# Altium schematic symbol library 电源芯片.SchLib: 37 symbols
Pins are listed as number, name and electrical type; pins without a type are passive.

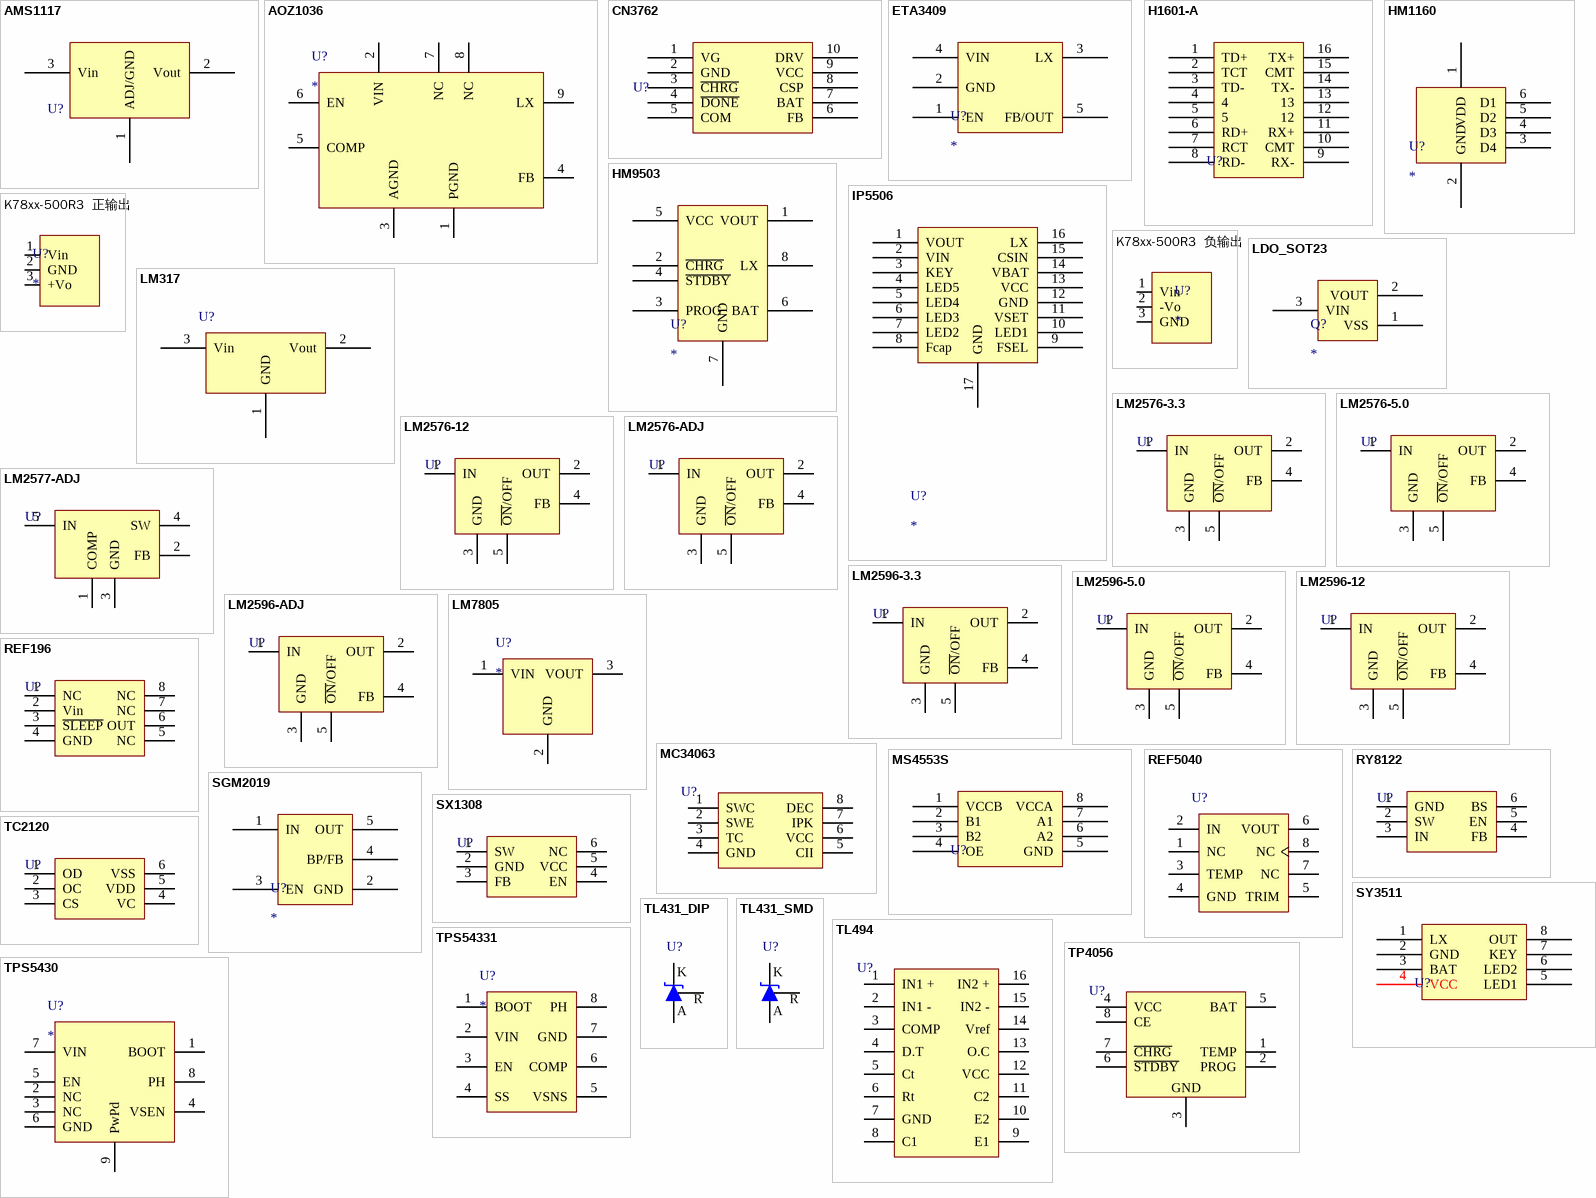
[diagram p0: symbols AMS1117 to TPS54331]

## AMS1117
designator U?
三端稳压芯片
footprint SOT223
footprint TO252 (252晶体管)
footprint SOT89(2-4)
pins: 1 ADJ/GND, 2 Vout, 3 Vin

## AOZ1036
designator U?
footprint SOP8-Pad
pins: 1 PGND, 2 VIN, 3 AGND, 4 FB, 5 COMP, 6 EN, 7 NC, 8 NC, 9 LX

## CN3762
designator U?  (value not drawn)
PWM降压模式两节锂电池充电管理芯片; Manufacturer: CONSONANCE(上海如韵); Symbol: CN3762; Add into BOM: yes; Device: CN3762; LCSC Part Name: CN3762; Supplier Part: C63168; Manufacturer Part: CN3762; Supplier Footprint: SSOP-10_150mil; Datasheet: https://atta.szlcsc.com/upload/public/pdf/source/20160107/1457707747412.pdf; Supplier: LCSC; Convert to PCB: yes; Battery Chemistry: -; Number of Cells: -; Charge Current - Max: -; Battery Pack Voltage: -; Voltage - Supply (Max): -; Interface: -
footprint SOP10
pins: 1 VG, 2 GND, 3 ~{CHRG}, 4 ~{DONE}, 5 COM, 6 FB, 7 BAT, 8 CSP, 9 VCC, 10 DRV

## ETA3409
designator U?
带7.3V OVP的3A、1 MHz同步降压转换器
footprint SOT23-5
pins: 1 EN (oc), 2 GND (oc), 3 LX (oc), 4 VIN (oc), 5 FB/OUT (oc)

## H1601-A
designator U?
单口百兆变压器
footprint XFMR-SMD_16P-L12.7-W7.1-P1.27-LS9.4-BL
pins: 1 TD+, 2 TCT, 3 TD-, 4, 5, 6 RD+, 7 RCT, 8 RD-, 9 RX-, 10 CMT, 11 RX+, 12, 13, 14 TX-, 15 CMT, 16 TX+

## HM1160
designator U?
单节锂电池电量指示芯片
footprint SOT23-6
pins: 1 VDD, 2 GND, 3 D4, 4 D3, 5 D2, 6 D1

## HM9503
designator U?
1A锂电池充电和5V/1A升压控制 / 芯片
footprint ESOP8
pins: 1 VOUT, 2 ~{CHRG}, 3 PROG, 4 ~{STDBY}, 5 VCC, 6 BAT, 7 GND, 8 LX

## IP5506
designator U?
集成数码管驱动的2A充电2.4A放电移动电源SOC
footprint ESOP16
pins: 1 VOUT, 2 VIN, 3 KEY, 4 LED5, 5 LED4, 6 LED3, 7 LED2, 8 Fcap, 9 FSEL, 10 LED1, 11 VSET, 12 GND, 13 VCC, 14 VBAT, 15 CSIN, 16 LX, 17 GND

## K78xx-500R3  正输出
designator U?
footprint K78xx-500R3 正输出
pins: 1 Vin, 2 GND, 3 +Vo

## K78xx-500R3  负输出
designator U?
footprint K78xx-500R3 负输出
pins: 1 Vin, 2 -Vo, 3 GND

## LDO_SOT23
designator Q?
SOT23封装LDO
footprint SOT23
pins: 1 VSS, 2 VOUT, 3 VIN

## LM317
designator U?
可调线性稳压芯片
footprint TO220A (220，3脚晶体管)
footprint TO263
pins: 1 GND, 2 Vout, 3 Vin

## LM2576-3.3
designator U?
DC降压芯片
footprint TO263-5A (263，5脚晶体管)
footprint TO220-5A
pins: 1 IN (power), 2 OUT (power), 3 GND (power), 4 FB, 5 ~{ON}/OFF

## LM2576-5.0
designator U?
DC降压芯片
footprint TO220-5A
footprint TO263-5A (263，5脚晶体管)
pins: 1 IN (power), 2 OUT (power), 3 GND (power), 4 FB, 5 ~{ON}/OFF

## LM2576-12
designator U?
DC降压芯片
footprint TO220-5A
footprint TO263-5A (263，5脚晶体管)
pins: 1 IN (power), 2 OUT (power), 3 GND (power), 4 FB, 5 ~{ON}/OFF

## LM2576-ADJ
designator U?
DC降压芯片
footprint TO220-5A
footprint TO263-5A (263，5脚晶体管)
pins: 1 IN (power), 2 OUT (power), 3 GND (power), 4 FB, 5 ~{ON}/OFF

## LM2577-ADJ
designator U?
DC升压芯片
footprint TO263-5A (263，5脚晶体管)
pins: 1 COMP, 2 FB, 3 GND, 4 SW (power), 5 IN (power)

## LM2596-3.3
designator U?
DC降压芯片
footprint TO263-5A (263，5脚晶体管)
pins: 1 IN (power), 2 OUT (power), 3 GND (power), 4 FB, 5 ~{ON}/OFF

## LM2596-5.0
designator U?
DC降压芯片
footprint TO263-5A (263，5脚晶体管)
pins: 1 IN (power), 2 OUT (power), 3 GND (power), 4 FB, 5 ~{ON}/OFF

## LM2596-12
designator U?
DC降压芯片
footprint TO263-5A (263，5脚晶体管)
pins: 1 IN (power), 2 OUT (power), 3 GND (power), 4 FB, 5 ~{ON}/OFF

## LM2596-ADJ
designator U?
footprint TO263-5A (263，5脚晶体管)
pins: 1 IN (power), 2 OUT (power), 3 GND (power), 4 FB, 5 ~{ON}/OFF

## LM7805
designator U?
footprint TO220A (220，3脚晶体管)
footprint TO252 (252晶体管)
pins: 1 VIN, 2 GND, 3 VOUT

## MC34063
designator U?
footprint DIP8
footprint DIP8_SS (DIP8-SMD Socket)
footprint SOP8
pins: 1 SWC, 2 SWE, 3 TC, 4 GND, 5 CII, 6 VCC, 7 IPK, 8 DEC

## MS4553S
designator U?
用于开漏模式和推拉模式的 2bit 双向电平转换器
footprint SOT23-8
pins: 1 VCCB, 2 B1, 3 B2, 4 OE, 5 GND, 6 A2, 7 A1, 8 VCCA

## REF196
designator U?
3V3基准电压源
footprint SOP8
pins: 1 NC, 2 Vin, 3 ~{SLEEP}, 4 GND, 5 NC, 6 OUT, 7 NC, 8 NC

## REF5040
designator U?
高精度电压基准
footprint SOP8
pins: 1 NC, 2 IN, 3 TEMP, 4 GND, 5 TRIM, 6 VOUT, 7 NC, 8 NC

## RY8122
designator U?
Buck降压4-18V电压输入最大2A电流输出,500KHz
footprint SOT23-6
pins: 1 GND, 2 SW, 3 IN, 4 FB, 5 EN, 6 BS

## SGM2019
designator U?
footprint SOT23-5
pins: 1 IN (oc), 2 GND (oc), 3 EN (oc), 4 BP/FB (oc), 5 OUT (oc)

## SX1308
designator U?
可调升压芯片
footprint SOT23-6
pins: 1 SW, 2 GND, 3 FB, 4 EN, 5 VCC, 6 NC

## SY3511
designator U?
移动电源单芯片
footprint ESOP8
pins: 1 LX, 2 GND, 3 BAT, 4 VCC, 5 LED1, 6 LED2, 7 KEY, 8 OUT

## TC2120
designator U?
双节锂电池保护IC
footprint SOT23-6
pins: 1 OD, 2 OC, 3 CS, 4 VC, 5 VDD, 6 VSS

## TL431_DIP
designator U?
可调基准稳压芯片
footprint TO92A
footprint TO92B
pins: A, K, R

## TL431_SMD
designator U?
可调基准稳压芯片
footprint SOT89
pins: A, K, R

## TL494
designator U?
电源管理IC
footprint DIP16
footprint DIP16_SS (DIP16-SMD Socket)
pins: 1 IN1 +, 2 IN1 -, 3 COMP, 4 D.T, 5 Ct, 6 Rt, 7 GND, 8 C1, 9 E1, 10 E2, 11 C2, 12 VCC, 13 O.C, 14 Vref, 15 IN2 -, 16 IN2 +

## TP4056
designator U?
footprint SOP8
pins: 1 TEMP, 2 PROG, 3 GND, 4 VCC, 5 BAT, 6 ~{STDBY}, 7 ~{CHRG}, 8 CE

## TPS5430
designator U?
footprint SOP8-Pad
pins: 1 BOOT, 2 NC, 3 NC, 4 VSEN, 5 EN, 6 GND, 7 VIN, 8 PH, 9 PwPd

## TPS54331
designator U?
footprint SOP8-Pad
pins: 1 BOOT, 2 VIN, 3 EN, 4 SS, 5 VSNS, 6 COMP, 7 GND, 8 PH